# Altium schematic symbol library RES 1.5k 1_8W - 5%.Schlib: 1 symbol
Pins are listed as number, name and electrical type; pins without a type are passive.

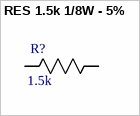
[diagram p0: symbol RES 1.5k 1/8W - 5%]

## RES 1.5k 1/8W - 5%
designator R?, comment 1.5k
RES SMD 1.5K OHM 5% 1/8W 0805
pins: 1 R1, 2 R2